# Altium footprint library Misc PCB Pattern.PcbLib: 7 footprints
Each footprint in its own frame and in the unit in brackets; x right, y up, seen from the top. Pads: shape width x height; smd on the part's side, far side on the other; paste and mask are expansions set on the pad; w line width, h text height; cw(c..) or ccw(c..) is an arc to the next point about the centre after c.
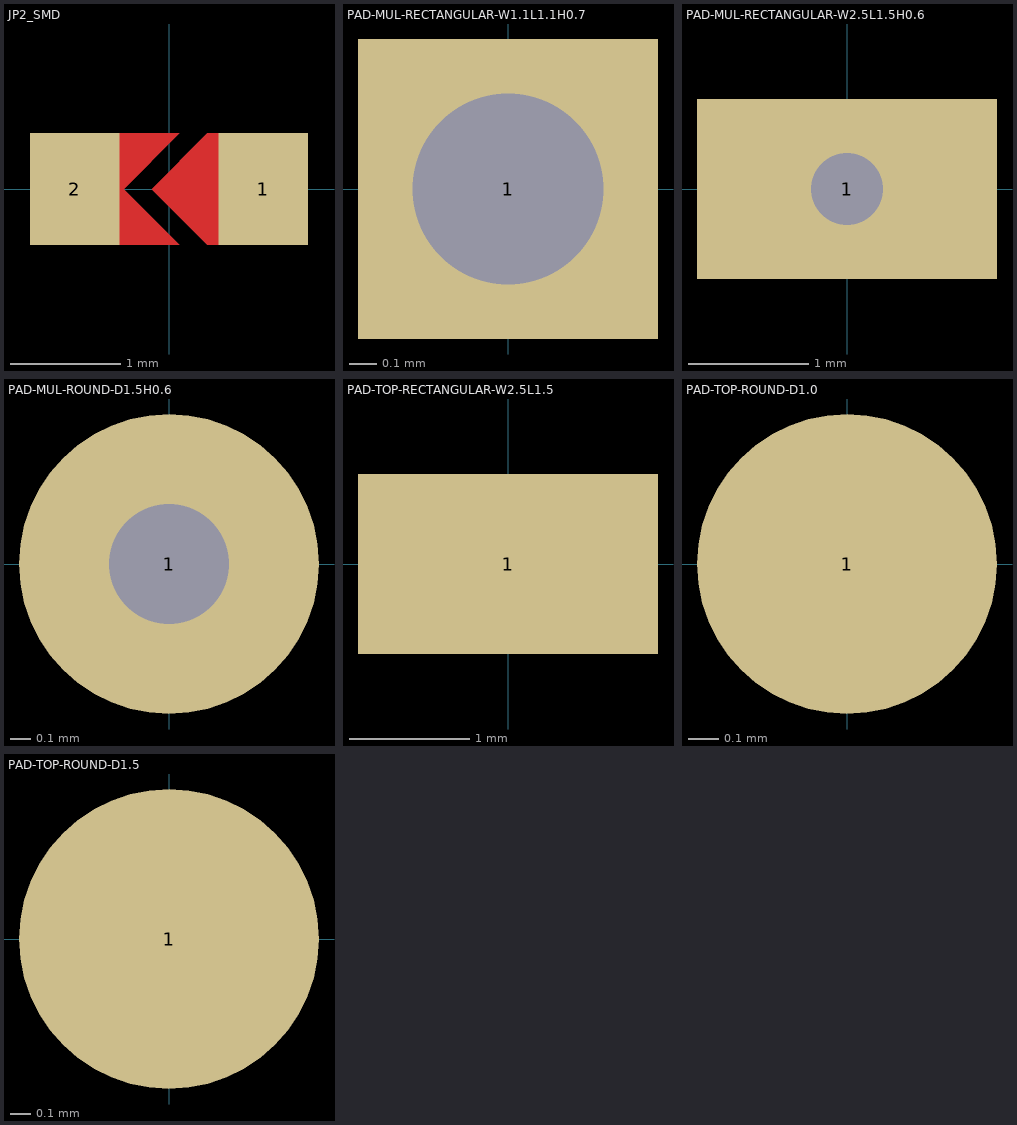
[diagram p0: the footprints below, top view; thin cyan lines are the x and y axes]

## JP2_SMD [mil]
height 78.74
pads (2):
  rect 32x40 smd: 1(33.75,0) 2(-33.75,0)
Top Layer:
  region: 23.75,20 13.75,20 -6.25,0 13.75,-20 23.75,-20
  region: -26.25,0 -16.25,0 3.75,20 -26.25,20
  region: -26.25,0 -16.25,0 3.75,-20 -26.25,-20
Top Paste:
  region: 23.75,20 13.75,20 -6.25,0 13.75,-20 23.75,-20
  region: -26.25,0 -16.25,0 3.75,20 -26.25,20
  region: -26.25,0 -16.25,0 3.75,-20 -26.25,-20
Top Solder:
  region: 23.75,24 13.75,24 -10.25,0 13.75,-24 23.75,-24
  region: -26.25,0 -12.25,0 11.75,24 -26.25,24
  region: -26.25,0 -12.25,0 11.75,-24 -26.25,-24

## PAD-MUL-RECTANGULAR-W1.1L1.1H0.7 [mm]
pads (1):
  rect 1.1x1.1 hole 0.7: 1(0,0)

## PAD-MUL-RECTANGULAR-W2.5L1.5H0.6 [mm]
pads (1):
  rect 2.5x1.5 hole 0.6: 1(0,0)

## PAD-MUL-ROUND-D1.5H0.6 [mm]
pads (1):
  round 1.5 hole 0.6: 1(0,0)

## PAD-TOP-RECTANGULAR-W2.5L1.5 [mm]
pads (1):
  rect 2.5x1.5 smd: 1(0,0)

## PAD-TOP-ROUND-D1.0 [mm] "Pad 1mm Diameter"
pads (1):
  round 1 smd: 1(0,0)

## PAD-TOP-ROUND-D1.5 [mm]
pads (1):
  round 1.5 smd: 1(0,0)